# EAGLE library part RES-ARRAY-742C163 (library GROUND-STATION-POWER-BOARD)
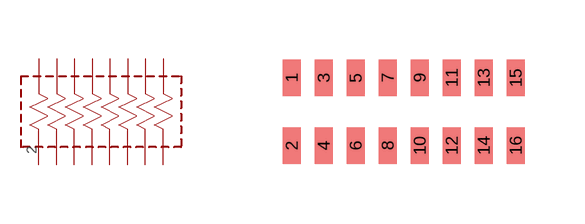
[diagram p5: symbol with the pads of RES-ARRAY-742C163271JPTR; footprint RES-ARRAY-742C163271JPTR]

Designator prefix -

## RES-ARRAY-742C163  [RES-ARRAY-742C163271JPTR]
1  !1OE1
2  !1OE2
3  !1OE3
4  !1OE4
5  !1OE5
6  !1OE6
7  !1OE7
8  !1OE8
9  !1OE9
10  !1OE10
11  !1OE11
12  !1OE12
13  !1OE13
14  !1OE14
15  !1OE15
16  !1OE16

## Footprint RES-ARRAY-742C163271JPTR (pad centres in mm)
smd 0.45 x 0.9: 1 -2.8,0.85; 2 -2.8,-0.85; 3 -2,0.85; 4 -2,-0.85; 5 -1.2,0.85; 6 -1.2,-0.85; 7 -0.4,0.85; 8 -0.4,-0.85; 9 0.4,0.85; 10 0.4,-0.85; 11 1.2,0.85; 12 1.2,-0.85; 13 2,0.85; 14 2,-0.85; 15 2.8,0.85; 16 2.8,-0.85